# Altium schematic symbol library IC.SchLib: 3 symbols
Pins are listed as number, name and electrical type; pins without a type are passive.

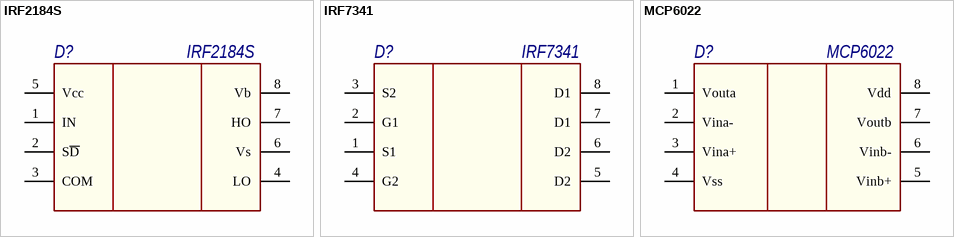
[diagram p0: symbols IRF2184S to MCP6022]

## IRF2184S
designator D?
footprint 8-SOIC (pitch 1.27 mm)
pins: 1 IN, 2 S~{D}, 3 COM, 4 LO, 5 Vcc, 6 Vs, 7 HO, 8 Vb

## IRF7341
designator D?
footprint 8-SOIC (pitch 1.27 mm)
pins: 1 S1, 2 G1, 3 S2, 4 G2, 5 D2, 6 D2, 7 D1, 8 D1

## MCP6022
designator D?
footprint 8-SOIC (pitch 1.27 mm)
pins: 1 Vouta, 2 Vina-, 3 Vina+, 4 Vss, 5 Vinb+, 6 Vinb-, 7 Voutb, 8 Vdd